# Altium footprint library LPON_OTHER.PcbLib: 107 footprints (part 4 of 7)
Each footprint in its own frame and in the unit in brackets; x right, y up, seen from the top. Pads: shape width x height; smd on the part's side, far side on the other; paste and mask are expansions set on the pad; w line width, h text height; cw(c..) or ccw(c..) is an arc to the next point about the centre after c.
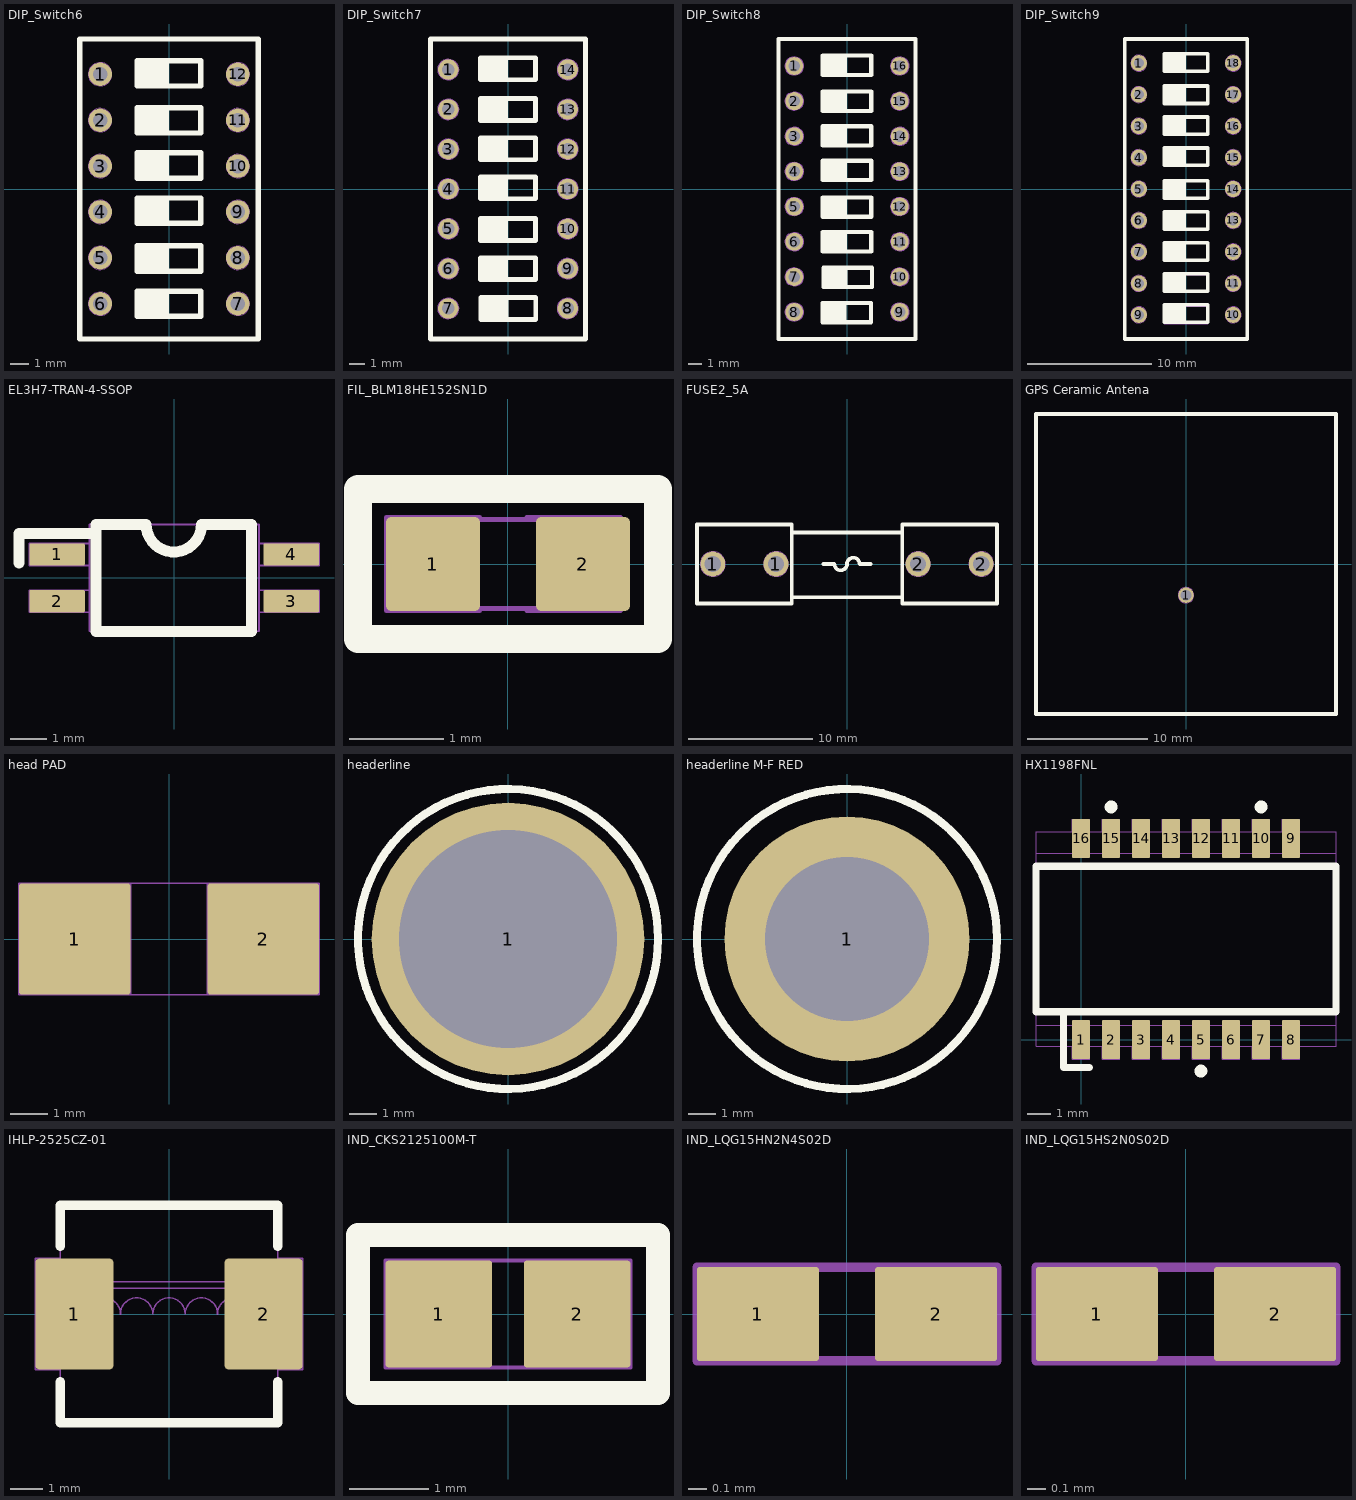
[diagram p3: the footprints below, top view; thin cyan lines are the x and y axes]

## DIP_Switch6 [mm] "DIP Switch 12 pin, 2.54mm"
height 6
pads (12):
  round 1.3 hole 0.8: 1(-3.81,6.35) 2(-3.81,3.81) 3(-3.81,1.27) 4(-3.81,-1.27) 5(-3.81,-3.81) 6(-3.81,-6.35) 7(3.81,-6.35) 8(3.81,-3.81) 9(3.81,-1.27) 10(3.81,1.27) 11(3.81,3.81) 12(3.81,6.35)
Top Overlay:
  rectangle: -1.75,-7.05 -0.15,-5.65
  rectangle: -1.75,-4.55 -0.15,-3.15
  rectangle: -1.75,-1.9 -0.15,-0.5
  rectangle: -1.75,0.6 -0.15,2
  rectangle: -1.75,3.1 -0.15,4.5
  rectangle: -1.75,5.7 -0.15,7.1
  lines w0.3: -0.15,-7.05 -0.15,-5.65 ; -0.15,-4.55 -0.15,-3.15 ; -0.15,-1.9 -0.15,-0.5 ; -0.15,0.6 -0.15,2 ; -0.15,3.1 -0.15,4.5 ; -0.15,5.7 -0.15,7.1 ; -4.95,-8.3 4.95,-8.3 4.95,8.3 -4.95,8.3 -4.95,-8.3 ; -1.75,-7.05 -1.75,-5.65 1.75,-5.65 1.75,-7.05 -1.75,-7.05 ; -1.75,-4.55 -1.75,-3.15 1.75,-3.15 1.75,-4.55 -1.75,-4.55 ; -1.75,-1.9 -1.75,-0.5 1.75,-0.5 1.75,-1.9 -1.75,-1.9 ; -1.75,0.6 -1.75,2 1.75,2 1.75,0.6 -1.75,0.6 ; -1.75,3.1 -1.75,4.5 1.75,4.5 1.75,3.1 -1.75,3.1 ; -1.75,5.7 1.75,5.7 1.75,7.1 -1.75,7.1 -1.75,5.7
Mechanical 1:
  circle w0.05: c3.81,6.35 r0.65
  circle w0.05: c3.81,3.81 r0.65
  circle w0.05: c3.81,1.27 r0.65
  circle w0.05: c3.81,-1.27 r0.65
  circle w0.05: c3.81,-3.81 r0.65
  circle w0.05: c3.81,-6.35 r0.65
  circle w0.05: c-3.81,-6.35 r0.65
  circle w0.05: c-3.81,-3.81 r0.65
  circle w0.05: c-3.81,-1.27 r0.65
  circle w0.05: c-3.81,1.27 r0.65
  circle w0.05: c-3.81,3.81 r0.65
  circle w0.05: c-3.81,6.35 r0.65
  rectangle: -1.75,5.7 -0.15,7.1
  rectangle: -1.75,3.1 -0.15,4.5
  rectangle: -1.75,0.6 -0.15,2
  rectangle: -1.75,-1.9 -0.15,-0.5
  rectangle: -1.75,-4.55 -0.15,-3.15
  rectangle: -1.75,-7.05 -0.15,-5.65
  lines w0.05: -0.15,-7.05 -0.15,-5.65 ; -0.15,-4.55 -0.15,-3.15 ; -0.15,-1.9 -0.15,-0.5 ; -0.15,0.6 -0.15,2 ; -0.15,3.1 -0.15,4.5 ; -0.15,5.7 -0.15,7.1 ; -4.95,-8.3 -4.95,8.3 4.95,8.3 4.95,-8.3 -4.95,-8.3 ; -1.75,-7.05 1.75,-7.05 1.75,-5.65 -1.75,-5.65 -1.75,-7.05 ; -1.75,-4.55 1.75,-4.55 1.75,-3.15 -1.75,-3.15 -1.75,-4.55 ; -1.75,-1.9 1.75,-1.9 1.75,-0.5 -1.75,-0.5 -1.75,-1.9 ; -1.75,0.6 1.75,0.6 1.75,2 -1.75,2 -1.75,0.6 ; -1.75,3.1 1.75,3.1 1.75,4.5 -1.75,4.5 -1.75,3.1 ; -1.75,5.7 -1.75,7.1 1.75,7.1 1.75,5.7 -1.75,5.7
  text "OFF" at -3.5,7.4 h1.2
  text "ON" at 1.8,7.4 h1.2
  text "1" at -2.9,6 h1.2
  text "12" at 2,6 h1.2
  text "6" at -3,-6.7 h1.2
  text "7" at 2.5,-6.7 h1.2
3D body: height 6, standoff 0, extent -4.949,-8.299 4.949,8.299

## DIP_Switch7 [mm] "DIP Switch 14pin, 2.54mm"
height 6
pads (14):
  round 1.3 hole 0.8: 1(-3.81,7.62) 2(-3.81,5.08) 3(-3.81,2.54) 4(-3.81,0) 5(-3.81,-2.54) 6(-3.81,-5.08) 7(-3.81,-7.62) 8(3.81,-7.62) 9(3.81,-5.08) 10(3.81,-2.54) 11(3.81,0) 12(3.81,2.54) 13(3.81,5.08) 14(3.81,7.62)
Top Overlay:
  rectangle: -1.75,6.97 -0.15,8.37
  rectangle: -1.75,4.37 -0.15,5.77
  rectangle: -1.75,1.87 -0.15,3.27
  rectangle: -1.75,-0.63 -0.15,0.77
  rectangle: -1.75,-3.28 -0.15,-1.88
  rectangle: -1.75,-5.78 -0.15,-4.38
  rectangle: -1.725,-8.325 -0.125,-6.925
  lines w0.3: -0.15,-5.78 -0.15,-4.38 ; -0.15,-3.28 -0.15,-1.88 ; -0.15,-0.63 -0.15,0.77 ; -0.15,1.87 -0.15,3.27 ; -0.15,4.37 -0.15,5.77 ; -0.15,6.97 -0.15,8.37 ; -0.125,-8.325 -0.125,-6.925 ; -4.95,-9.57 -4.95,9.57 4.95,9.57 4.95,-9.57 -4.95,-9.57 ; -1.75,-5.78 1.75,-5.78 1.75,-4.38 -1.75,-4.38 -1.75,-5.78 ; -1.75,-3.28 1.75,-3.28 1.75,-1.88 -1.75,-1.88 -1.75,-3.28 ; -1.75,-0.63 1.75,-0.63 1.75,0.77 -1.75,0.77 -1.75,-0.63 ; -1.75,1.87 1.75,1.87 1.75,3.27 -1.75,3.27 -1.75,1.87 ; -1.75,4.37 1.75,4.37 1.75,5.77 -1.75,5.77 -1.75,4.37 ; -1.75,6.97 -1.75,8.37 1.75,8.37 1.75,6.97 -1.75,6.97 ; -1.725,-8.325 -1.725,-6.925 1.775,-6.925 1.775,-8.325 -1.725,-8.325
Mechanical 1:
  circle w0.1: c3.81,-7.62 r0.65
  circle w0.1: c-3.81,-7.62 r0.65
  circle w0.1: c-3.81,7.62 r0.65
  circle w0.1: c-3.81,5.08 r0.65
  circle w0.1: c-3.81,2.54 r0.65
  circle w0.1: c-3.81,0 r0.65
  circle w0.1: c-3.81,-2.54 r0.65
  circle w0.1: c-3.81,-5.08 r0.65
  circle w0.1: c3.81,-5.08 r0.65
  circle w0.1: c3.81,-2.54 r0.65
  circle w0.1: c3.81,0 r0.65
  circle w0.1: c3.81,2.54 r0.65
  circle w0.1: c3.81,5.08 r0.65
  circle w0.1: c3.81,7.62 r0.65
  rectangle: -1.75,-5.78 -0.15,-4.38
  rectangle: -1.75,-3.28 -0.15,-1.88
  rectangle: -1.75,-0.63 -0.15,0.77
  rectangle: -1.75,1.87 -0.15,3.27
  rectangle: -1.75,4.37 -0.15,5.77
  rectangle: -1.75,6.97 -0.15,8.37
  rectangle: -1.75,-8.325 -0.15,-6.925
  lines w0.1: -0.15,-8.325 -0.15,-6.925 ; -0.15,-5.78 -0.15,-4.38 ; -0.15,-3.28 -0.15,-1.88 ; -0.15,-0.63 -0.15,0.77 ; -0.15,1.87 -0.15,3.27 ; -0.15,4.37 -0.15,5.77 ; -0.15,6.97 -0.15,8.37 ; -4.95,-9.57 4.95,-9.57 4.95,9.57 -4.95,9.57 -4.95,-9.57 ; -1.75,-8.325 1.75,-8.325 1.75,-6.925 -1.75,-6.925 -1.75,-8.325 ; -1.75,-5.78 -1.75,-4.38 1.75,-4.38 1.75,-5.78 -1.75,-5.78 ; -1.75,-3.28 -1.75,-1.88 1.75,-1.88 1.75,-3.28 -1.75,-3.28 ; -1.75,-0.63 -1.75,0.77 1.75,0.77 1.75,-0.63 -1.75,-0.63 ; -1.75,1.87 -1.75,3.27 1.75,3.27 1.75,1.87 -1.75,1.87 ; -1.75,4.37 -1.75,5.77 1.75,5.77 1.75,4.37 -1.75,4.37 ; -1.75,6.97 1.75,6.97 1.75,8.37 -1.75,8.37 -1.75,6.97
  text "OFF" at -3.4,8.7 h1.2
  text "ON" at 1.9,8.7 h1.2
  text "14" at 2,7.3 h1.2
  text "8" at 2.5,-8.1 h1.2
  text "7" at -2.9,-8 h1.2
  text "1" at -2.9,7.3 h1.2
3D body: height 6, standoff 0, extent -4.949,-9.57 4.949,9.569

## DIP_Switch8 [mm] "DIP Switch 16 pin, 2.54mm"
height 6
pads (16):
  round 1.3 hole 0.8: 1(-3.81,8.89) 2(-3.81,6.35) 3(-3.81,3.81) 4(-3.81,1.27) 5(-3.81,-1.27) 6(-3.81,-3.81) 7(-3.81,-6.35) 8(-3.81,-8.89) 9(3.81,-8.89) 10(3.81,-6.35) 11(3.81,-3.81) 12(3.81,-1.27) 13(3.81,1.27) 14(3.81,3.81) 15(3.81,6.35) 16(3.81,8.89)
Top Overlay:
  rectangle: -1.75,-4.51 -0.15,-3.11
  rectangle: -1.75,-2.01 -0.15,-0.61
  rectangle: -1.75,0.64 -0.15,2.04
  rectangle: -1.75,3.14 -0.15,4.54
  rectangle: -1.75,5.64 -0.15,7.04
  rectangle: -1.75,8.24 -0.15,9.64
  rectangle: -1.7,-7.09 -0.1,-5.69
  rectangle: -1.775,-9.63 -0.175,-8.23
  lines w0.3: -0.175,-9.63 -0.175,-8.23 ; -0.15,-4.51 -0.15,-3.11 ; -0.15,-2.01 -0.15,-0.61 ; -0.15,0.64 -0.15,2.04 ; -0.15,3.14 -0.15,4.54 ; -0.15,5.64 -0.15,7.04 ; -0.15,8.24 -0.15,9.64 ; -0.1,-7.09 -0.1,-5.69 ; -4.95,-10.84 4.95,-10.84 4.95,10.84 -4.95,10.84 -4.95,-10.84 ; -1.775,-9.63 1.725,-9.63 1.725,-8.23 -1.775,-8.23 -1.775,-9.63 ; -1.75,-4.51 -1.75,-3.11 1.75,-3.11 1.75,-4.51 -1.75,-4.51 ; -1.75,-2.01 -1.75,-0.61 1.75,-0.61 1.75,-2.01 -1.75,-2.01 ; -1.75,0.64 -1.75,2.04 1.75,2.04 1.75,0.64 -1.75,0.64 ; -1.75,3.14 -1.75,4.54 1.75,4.54 1.75,3.14 -1.75,3.14 ; -1.75,5.64 -1.75,7.04 1.75,7.04 1.75,5.64 -1.75,5.64 ; -1.75,8.24 1.75,8.24 1.75,9.64 -1.75,9.64 -1.75,8.24 ; -1.7,-7.09 1.8,-7.09 1.8,-5.69 -1.7,-5.69 -1.7,-7.09
Mechanical 1:
  circle w0.1: c-3.81,-8.89 r0.65
  circle w0.1: c3.81,-8.89 r0.65
  circle w0.1: c-3.81,-6.35 r0.65
  circle w0.1: c3.81,-6.35 r0.65
  circle w0.1: c3.81,8.89 r0.65
  circle w0.1: c3.81,6.35 r0.65
  circle w0.1: c3.81,3.81 r0.65
  circle w0.1: c3.81,1.27 r0.65
  circle w0.1: c3.81,-1.27 r0.65
  circle w0.1: c3.81,-3.81 r0.65
  circle w0.1: c-3.81,-3.81 r0.65
  circle w0.1: c-3.81,-1.27 r0.65
  circle w0.1: c-3.81,1.27 r0.65
  circle w0.1: c-3.81,3.81 r0.65
  circle w0.1: c-3.81,6.35 r0.65
  circle w0.1: c-3.81,8.89 r0.65
  rectangle: -1.75,-9.63 -0.15,-8.23
  rectangle: -1.75,-7.09 -0.15,-5.69
  rectangle: -1.75,8.24 -0.15,9.64
  rectangle: -1.75,5.64 -0.15,7.04
  rectangle: -1.75,3.14 -0.15,4.54
  rectangle: -1.75,0.64 -0.15,2.04
  rectangle: -1.75,-2.01 -0.15,-0.61
  rectangle: -1.75,-4.51 -0.15,-3.11
  lines w0.1: -0.15,-9.63 -0.15,-8.23 ; -0.15,-7.09 -0.15,-5.69 ; -0.15,-4.51 -0.15,-3.11 ; -0.15,-2.01 -0.15,-0.61 ; -0.15,0.64 -0.15,2.04 ; -0.15,3.14 -0.15,4.54 ; -0.15,5.64 -0.15,7.04 ; -0.15,8.24 -0.15,9.64 ; -4.95,-10.84 -4.95,10.84 4.95,10.84 4.95,-10.84 -4.95,-10.84 ; -1.75,-9.63 -1.75,-8.23 1.75,-8.23 1.75,-9.63 -1.75,-9.63 ; -1.75,-7.09 -1.75,-5.69 1.75,-5.69 1.75,-7.09 -1.75,-7.09 ; -1.75,-4.51 1.75,-4.51 1.75,-3.11 -1.75,-3.11 -1.75,-4.51 ; -1.75,-2.01 1.75,-2.01 1.75,-0.61 -1.75,-0.61 -1.75,-2.01 ; -1.75,0.64 1.75,0.64 1.75,2.04 -1.75,2.04 -1.75,0.64 ; -1.75,3.14 1.75,3.14 1.75,4.54 -1.75,4.54 -1.75,3.14 ; -1.75,5.64 1.75,5.64 1.75,7.04 -1.75,7.04 -1.75,5.64 ; -1.75,8.24 -1.75,9.64 1.75,9.64 1.75,8.24 -1.75,8.24
  text "16" at 2,8.5 h1.2
  text "9" at 2.5,-9.3 h1.2
  text "8" at -3,-9.3 h1.2
  text "1" at -2.9,8.5 h1.2
  text "ON" at 2,9.9 h1.2
  text "OFF" at -3.6,9.9 h1.2
3D body "User Library-DIP SWITCH 8 POS CTS 206.step": height 8.25, standoff -3.5, extent -4.89,-11.25 4.89,11.25

## DIP_Switch9 [mm] "DIP Switch 18 pin, 2.54mm"
height 6
pads (19):
  round 1.3 hole 0.8: 1(-3.81,10.16) 2(-3.81,7.62) 3(-3.81,5.08) 4(-3.81,2.54) 5(-3.81,0) 6(-3.81,-2.54) 6(-3.81,-2.54) 7(-3.81,-5.08) 8(-3.81,-7.62) 9(-3.81,-10.16) 10(3.81,-10.16) 11(3.81,-7.62) 12(3.81,-5.08) 13(3.81,-2.54) 14(3.81,0) 15(3.81,2.54) 16(3.81,5.08) 17(3.81,7.62) 18(3.81,10.16)
Top Overlay:
  rectangle: -1.75,9.51 -0.15,10.91
  rectangle: -1.75,6.91 -0.15,8.31
  rectangle: -1.75,4.41 -0.15,5.81
  rectangle: -1.75,1.91 -0.15,3.31
  rectangle: -1.75,-0.74 -0.15,0.66
  rectangle: -1.75,-3.24 -0.15,-1.84
  rectangle: -1.75,-5.75 -0.15,-4.35
  rectangle: -1.75,-8.25 -0.15,-6.85
  rectangle: -1.75,-10.75 -0.15,-9.35
  lines w0.3: -0.15,-10.75 -0.15,-9.35 ; -0.15,-8.25 -0.15,-6.85 ; -0.15,-5.75 -0.15,-4.35 ; -0.15,-3.24 -0.15,-1.84 ; -0.15,-0.74 -0.15,0.66 ; -0.15,1.91 -0.15,3.31 ; -0.15,4.41 -0.15,5.81 ; -0.15,6.91 -0.15,8.31 ; -0.15,9.51 -0.15,10.91 ; -4.95,-12.11 -4.95,12.11 4.95,12.11 4.95,-12.11 -4.95,-12.11 ; -1.75,-10.75 -1.75,-9.35 1.75,-9.35 1.75,-10.75 -1.75,-10.75 ; -1.75,-8.25 -1.75,-6.85 1.75,-6.85 1.75,-8.25 -1.75,-8.25 ; -1.75,-5.75 -1.75,-4.35 1.75,-4.35 1.75,-5.75 -1.75,-5.75 ; -1.75,-3.24 1.75,-3.24 1.75,-1.84 -1.75,-1.84 -1.75,-3.24 ; -1.75,-0.74 1.75,-0.74 1.75,0.66 -1.75,0.66 -1.75,-0.74 ; -1.75,1.91 1.75,1.91 1.75,3.31 -1.75,3.31 -1.75,1.91 ; -1.75,4.41 1.75,4.41 1.75,5.81 -1.75,5.81 -1.75,4.41 ; -1.75,6.91 1.75,6.91 1.75,8.31 -1.75,8.31 -1.75,6.91 ; -1.75,9.51 -1.75,10.91 1.75,10.91 1.75,9.51 -1.75,9.51
Mechanical 1:
  circle w0.05: c-3.81,10.16 r0.65
  circle w0.05: c-3.81,7.62 r0.65
  circle w0.05: c-3.81,5.08 r0.65
  circle w0.05: c-3.81,2.54 r0.65
  circle w0.05: c-3.81,0 r0.65
  circle w0.05: c-3.81,-2.54 r0.65
  circle w0.05: c3.81,-2.54 r0.65
  circle w0.05: c3.81,0 r0.65
  circle w0.05: c3.81,2.54 r0.65
  circle w0.05: c3.81,5.08 r0.65
  circle w0.05: c3.81,7.62 r0.65
  circle w0.05: c3.81,10.16 r0.65
  circle w0.05: c3.81,-5.08 r0.65
  circle w0.05: c-3.81,-5.08 r0.65
  circle w0.05: c3.81,-7.62 r0.65
  circle w0.05: c-3.81,-7.62 r0.65
  circle w0.05: c3.81,-10.16 r0.65
  circle w0.05: c-3.81,-10.16 r0.65
  rectangle: -1.75,-3.24 -0.15,-1.84
  rectangle: -1.75,-0.74 -0.15,0.66
  rectangle: -1.75,1.91 -0.15,3.31
  rectangle: -1.75,4.41 -0.15,5.81
  rectangle: -1.75,6.91 -0.15,8.31
  rectangle: -1.75,9.51 -0.15,10.91
  rectangle: -1.75,-5.78 -0.15,-4.38
  rectangle: -1.75,-8.32 -0.15,-6.92
  rectangle: -1.75,-10.86 -0.15,-9.46
  lines w0.05: -0.15,-10.86 -0.15,-9.46 ; -0.15,-8.32 -0.15,-6.92 ; -0.15,-5.78 -0.15,-4.38 ; -0.15,-3.24 -0.15,-1.84 ; -0.15,-0.74 -0.15,0.66 ; -0.15,1.91 -0.15,3.31 ; -0.15,4.41 -0.15,5.81 ; -0.15,6.91 -0.15,8.31 ; -0.15,9.51 -0.15,10.91 ; -4.95,-12.11 4.95,-12.11 4.95,12.11 -4.95,12.11 -4.95,-12.11 ; -1.75,-10.86 1.75,-10.86 1.75,-9.46 -1.75,-9.46 -1.75,-10.86 ; -1.75,-8.32 1.75,-8.32 1.75,-6.92 -1.75,-6.92 -1.75,-8.32 ; -1.75,-5.78 1.75,-5.78 1.75,-4.38 -1.75,-4.38 -1.75,-5.78 ; -1.75,-3.24 -1.75,-1.84 1.75,-1.84 1.75,-3.24 -1.75,-3.24 ; -1.75,-0.74 -1.75,0.66 1.75,0.66 1.75,-0.74 -1.75,-0.74 ; -1.75,1.91 -1.75,3.31 1.75,3.31 1.75,1.91 -1.75,1.91 ; -1.75,4.41 -1.75,5.81 1.75,5.81 1.75,4.41 -1.75,4.41 ; -1.75,6.91 -1.75,8.31 1.75,8.31 1.75,6.91 -1.75,6.91 ; -1.75,9.51 1.75,9.51 1.75,10.91 -1.75,10.91 -1.75,9.51
  text "10" at 2,-10.6 h1.2
  text "9" at -3,-10.6 h1.2
  text "1" at -3,9.7 h1.2
  text "18" at 2.1,9.7 h1.2
3D body: height 6, standoff 0, extent -4.949,-12.11 4.949,12.109

## EL3H7-TRAN-4-SSOP [mm] "OPTOISOLATOR 3.75KV TRANS 4-SSOP"
height 2
pads (4):
  rrect10% 1.5x0.6 smd mask+0.1: 1(-3.175,0.635) 2(-3.175,-0.635) 3(3.175,-0.635) 4(3.175,0.635)
Top Overlay:
  lines w0.3: -4.208,0.4 -4.208,1.202 -4.182,1.202 -2.12,1.202 ; 0.74,1.45 cw(c-0.01,1.45) -0.76,1.45 -2.12,1.45 -2.12,1.202 ; 0.8,1.45 2.1,1.45 2.1,-1.45 -2.12,-1.45 -2.12,1.202
Mechanical 1:
  lines w0.05: -3.925,-0.935 -3.925,-0.335 -2.3,-0.335 -2.3,-0.935 -3.925,-0.935 ; -3.925,0.335 -2.3,0.335 -2.3,0.935 -3.925,0.935 -3.925,0.335 ; -2.3,-1.45 2.3,-1.45 2.3,1.45 -2.3,1.45 -2.3,-1.45 ; 2.3,-0.935 2.3,-0.335 3.925,-0.335 3.925,-0.935 2.3,-0.935 ; 2.3,0.335 3.925,0.335 3.925,0.935 2.3,0.935 2.3,0.335
  text "C" at 1.63,0.5 h0.5
  text "E" at 1.63,-0.98 h0.5
  text "K" at -1.99,-0.98 h0.5
  text "A" at -2,0.5 h0.5
3D body "User Library-SSOP-4.step": height 1.95, standoff -0.07, extent -3.531,-1.347 3.469,1.353

## FIL_BLM18HE152SN1D [mm] "Filter, Body 1608mm, 0603inch"
height 0.45
pads (2):
  rrect10% 1x1 smd: 1(-0.8,0) 2(0.8,0)
Top Overlay:
  lines w0.3: -1.6,-0.8 1.6,-0.8 1.6,0.8 -1.6,0.8 -1.6,-0.8
Mechanical 1:
  lines w0.05: -0.3,-0.5 -1.3,-0.5 -1.3,0.475 -1.3,0.5 -0.3,0.5 ; 0.2,-0.5 1.2,-0.5 1.2,0.5 0.2,0.5 ; -0.875,-0.475 0.875,-0.475 0.875,0.475 -0.875,0.475 -0.875,-0.475
  text "L?" at 0,0 h0.41
3D body: height 0.95, standoff 0, extent -0.475,-0.475 0.475,0.475
3D body: height 0.95, standoff 0, extent -0.875,-0.475 -0.475,0.475
3D body: height 0.95, standoff 0, extent 0.475,-0.475 0.875,0.475

## FUSE2_5A [mm] "Fuse 2.5A  250V"
height 1
pads (4):
  round 2 hole 1.3: 1(-10.795,0) 1(-5.715,0) 2(5.715,0) 2(10.795,0)
Top Overlay:
  lines w0.3: -4.445,-2.667 4.445,-2.667 ; -4.445,2.54 4.445,2.54 ; -1.905,0 -1.016,0 ccw(c-0.508,0) 0,0 cw(c0.508,0) 1.016,0 1.905,0 ; -12.065,-3.175 -4.445,-3.175 -4.445,3.175 -12.065,3.175 -12.065,-3.175 ; 4.445,-3.175 4.445,3.175 12.065,3.175 12.065,-3.175 4.445,-3.175
Mechanical 1:
  circle w0.05: c10.795,0 r1
  circle w0.05: c5.715,0 r1
  circle w0.05: c-5.715,0 r1
  circle w0.05: c-10.795,0 r1
  lines w0.05: -4.445,-2.667 4.445,-2.667 ; -4.445,2.54 4.445,2.54 ; -12.065,-3.175 -12.065,3.175 -4.445,3.175 -4.445,-3.175 -12.065,-3.175 ; 4.445,-3.175 4.445,3.175 12.065,3.175 12.065,-3.175 4.445,-3.175
3D body "SW3dPS-Fuse Leg_2009.STEP": height 9.6, standoff -3.3, extent 5.304,-3.09 11.4,3.1
3D body "SW3dPS-Fuse Leg_2009.STEP": height 9.6, standoff -3.3, extent -11.296,-3.09 -5.2,3.1
3D body "SW3dPS-Fuse Small 1A.STEP": height 9.41, standoff 4.31, extent -9.774,-2.489 9.926,2.611

## GPS Ceramic Antena [mm] "25x25mm"
height 4
pads (1):
  round 1.3 hole 0.9: 1(0,-2.6)
Top Overlay:
  lines w0.3: -12.5,-12.5 12.5,-12.5 ; -12.5,-12.5 12.5,-12.5 ; -12.5,-12.5 -12.5,12.5 12.5,12.5 12.5,-12.5
Mechanical 2:
  circle w0.05: c0,-2.6 r0.65
  lines w0.05: -12.5,-12.5 12.5,-12.5 12.5,12.5 -12.5,12.5 -12.5,-12.5
3D body "User Library-YDRA-A25-1575.STEP": height 5, standoff -3, extent -12.5,-12.5 12.5,12.5

## head PAD [mm] "head PAD"
pads (2):
  rrect5% 3x3 smd mask+0.1: 1(-2.54,0) 2(2.54,0)
Mechanical 1:
  lines w0.05: -2.94,0 -2.14,0 ; -2.54,-0.4 -2.54,0.4 ; 2.14,0 2.94,0 ; -1.04,-1.5 -1.04,1.5 ; -1.04,-1.5 -1.04,1.5 ; -1.04,-1.5 -4.04,-1.5 -4.04,1.5 -1.04,1.5 ; -1.04,-1.5 1.04,-1.5 ; -1.04,1.5 1.04,1.5 ; 1.04,-1.5 4.04,-1.5 4.04,1.5 1.04,1.5 ; 1.04,-1.5 1.04,1.5
  text "PAD?" at -1.27,0 h0.8

## headerline [mm] "hole 6mm, outline 11mm"
height 10
pads (1):
  round 10 hole 8 mask+0.1: 1(0,0)
Top Overlay:
  circle w0.3: c0,0 r5.5
3D body "User Library-MS51831.step": height 7.92, standoff 0, extent -4.683,-4.683 4.684,4.684

## headerline M-F RED [mm] "hole 6mm, outline 11mm"
height 10
pads (1):
  round 9 hole 6 mask+0.1: 1(0,0)
Top Overlay:
  circle w0.3: c0,0 r5.5
3D body "User Library-Single Banana Jack.step": height 47.46, standoff 10, extent -5.715,-5.715 5.715,5.715
3D body "User Library-MS51831.step": height 7.92, standoff 0, extent -4.683,-4.683 4.684,4.684

## HX1198FNL [mm] "PULSE XFMR 1CT:1CT TX 1CT:1CT RX"
height 5.99
pads (16):
  rrect10% 0.76x1.65 smd mask+0.1: 1(0,0) 2(1.27,0) 3(2.54,0) 4(3.81,0) 5(5.08,0) 6(6.35,0) 7(7.62,0) 8(8.89,0) 9(8.89,8.51) 10(7.62,8.51) 11(6.35,8.51) 12(5.08,8.51) 13(3.81,8.51) 14(2.54,8.51) 15(1.27,8.51) 16(0,8.51)
Top Overlay:
  circle w0.5: c5.075,-1.336 r0.02
  circle w0.5: c7.625,9.846 r0.02
  circle w0.5: c1.275,9.846 r0.02
  lines w0.3: -0.734,1.165 -0.734,-1.187 0.367,-1.187 ; -1.905,1.175 -1.905,7.335 10.795,7.335 10.795,1.175 -1.905,1.175
Mechanical 2:
  lines w0.05: -1.905,0.605 10.795,0.605 ; -1.905,7.885 10.785,7.885 ; -0.38,-0.29 -0.38,-0.825 0.38,-0.825 0.38,-0.29 ; -0.38,8.8 -0.38,9.335 0.38,9.335 0.38,8.8 ; 0.89,-0.29 0.89,-0.825 1.65,-0.825 1.65,-0.29 ; 0.89,8.8 0.89,9.335 1.65,9.335 1.65,8.8 ; 2.16,-0.29 2.16,-0.825 2.92,-0.825 2.92,-0.29 ; 2.16,8.8 2.16,9.335 2.92,9.335 2.92,8.8 ; 3.43,-0.29 3.43,-0.825 4.19,-0.825 4.19,-0.29 ; 3.43,8.8 3.43,9.335 4.19,9.335 4.19,8.8 ; 4.7,-0.29 4.7,-0.825 5.46,-0.825 5.46,-0.29 ; 4.7,8.8 4.7,9.335 5.46,9.335 5.46,8.8 ; 5.97,-0.29 5.97,-0.825 6.73,-0.825 6.73,-0.29 ; 5.97,8.8 5.97,9.335 6.73,9.335 6.73,8.8 ; 7.24,-0.29 7.24,-0.825 8,-0.825 8,-0.29 ; 7.24,8.8 7.24,9.335 8,9.335 8,8.8 ; 8.51,-0.29 8.51,-0.825 9.27,-0.825 9.27,-0.29 ; 8.51,8.8 8.51,9.335 9.27,9.335 9.27,8.8 ; -1.905,-0.29 10.795,-0.29 10.795,8.8 -1.905,8.8 -1.905,-0.29
  text "1" at -0.215,1.115 h1
  text "16" at -0.215,6.195 h1
  text "8" at 8.555,1.115 h1
  text "9" at 8.555,6.195 h1
3D body "User Library-trans_HX1188FNL.step": height 5.95, standoff -0.05, extent -1.925,-0.391 10.775,8.927

## IHLP-2525CZ-01 [mil] "Low-Profile, High-Current IHLP® Inductor"
height 118.11
pads (2):
  rrect10% 95x135 smd mask+3.94: 1(-115,0) 2(115,0)
Top Overlay:
  lines w11.81: -132.36,-82.68 -132.36,-132.36 132.36,-132.36 132.36,-82.68 ; -132.36,82.68 -132.36,132.36 132.36,132.36 132.36,82.68
Mechanical 1:
  lines w1.97: -132.36,-118.97 -132.36,118.75 ; -132.36,116 cw(c-117.13,117.01) -118.88,132.17 ; -132.17,-118.88 ccw(c-117.01,-117.13) -116,-132.36 ; -118.75,132.36 116,132.36 cw(c117.01,117.13) 132.17,118.88 ; -115.97,-132.36 118.97,-132.36 ; -98.43,0 cw(c-78.74,0) -59.05,0 cw(c-39.37,0) -19.69,0 cw(c0,0) 19.69,0 cw(c39.37,0) 59.06,0 cw(c78.74,0) 98.43,0 ; -98.43,31.5 98.43,31.5 ; -98.43,39.37 98.43,39.37 ; 118.88,-132.17 ccw(c117.13,-117.01) 132.36,-116 ; 132.36,-115.97 132.36,118.88 ; 132.68,-67.5 162.5,-67.5 162.5,67.5 132.68,67.5 ; -162.5,-67.5 -132.86,-67.5 ; -162.5,-67.5 -162.5,67.5 ; -162.5,-67.5 -162.5,67.5 ; -162.5,-67.5 -132.86,-67.5 ; -162.5,67.5 -132.86,67.5 ; -162.5,67.5 -132.86,67.5 ; -132.86,-67.5 -132.86,67.5

## IND_CKS2125100M-T [mm] "INDUCTOR, Body 20X12mm, 2012 (0805INCH)"
pads (2):
  rrect5% 1.35x1.35 smd mask+0.1: 1(-0.875,0) 2(0.875,0)
Top Overlay:
  lines w0.3: -1.9,-1 -1.9,1 1.9,1 1.9,-1 -1.9,-1
Mechanical 1:
  lines w0.05: -0.15,-0.675 -1.55,-0.675 -1.55,0.675 -0.15,0.675 ; 0.8,-0.675 1.55,-0.675 1.55,0.675 0.8,0.675 ; -1.05,-0.675 1.05,-0.675 1.05,0.675 -1.05,0.675 -1.05,-0.675
  text "L?" at 0,0 h0.5
3D body "User Library-Chip Inductor (1).step": height 1, standoff 0.05, extent -1,-0.6 1,0.6

## IND_LQG15HN2N4S02D [mm] "INDUCTOR, Body 10x05mm, 1005 (0402INCH)"
height 0.55
pads (2):
  rrect5% 0.65x0.5 smd mask+0.1: 1(-0.475,0) 2(0.475,0)
Mechanical 1:
  lines w0.05: -0.15,-0.25 -0.8,-0.25 -0.8,0.25 -0.15,0.25 ; 0.15,-0.25 0.8,-0.25 0.8,0.25 0.15,0.25 ; -0.5,-0.25 0.5,-0.25 0.5,0.25 -0.5,0.25 -0.5,-0.25
  text "L?" at 0,0 h0.5
3D body "User Library-Chip Inductor (1).step": height 0.62, standoff 0.02, extent -0.5,-0.25 0.5,0.25

## IND_LQG15HS2N0S02D [mm] "INDUCTOR, Body 10x05mm, 1005 (0402INCH)"
height 0.55
pads (2):
  rrect5% 0.65x0.5 smd mask+0.1: 1(-0.475,0) 2(0.475,0)
Mechanical 1:
  lines w0.05: -0.15,-0.25 -0.8,-0.25 -0.8,0.25 -0.15,0.25 ; 0.15,-0.25 0.8,-0.25 0.8,0.25 0.15,0.25 ; -0.5,-0.25 0.5,-0.25 0.5,0.25 -0.5,0.25 -0.5,-0.25
  text "L?" at 0,0 h0.5
3D body "User Library-Chip Inductor (1).step": height 0.62, standoff 0.02, extent -0.5,-0.25 0.5,0.25